# EAGLE library part PH_2X12 (library PP_Connectors)
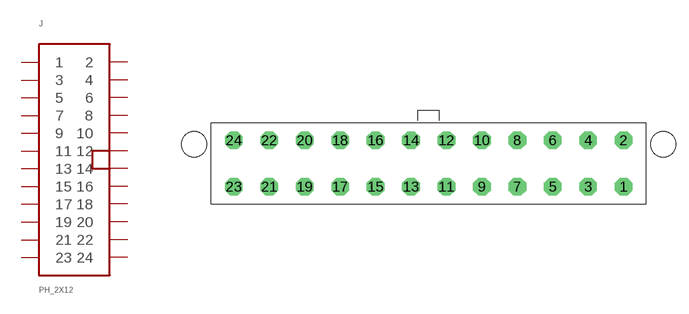
[diagram p15: symbol with the pads of MOLEX_39-28-8240; footprint MOLEX_39-28-8240]

Designator prefix J

## PH_2X12MOLEX_39-28-8240  [MOLEX_39-28-8240]
1  1
2  2
3  3
4  4
5  5
6  6
7  7
8  8
9  9
10  10
11  11
12  12
13  13
14  14
15  15
16  16
17  17
18  18
19  19
20  20
21  21
22  22
23  23
24  24

## Footprint MOLEX_39-28-8240 (pad centres in mm)
drill 1.4 octagon: 1 24.4,-2.75; 2 24.4,2.75; 3 20.2,-2.75; 4 20.2,2.75; 5 16,-2.75; 6 16,2.75; 7 11.8,-2.75; 8 11.8,2.75; 9 7.6,-2.75; 10 7.6,2.75; 11 3.4,-2.75; 12 3.4,2.75; 13 -0.8,-2.75; 14 -0.8,2.75; 15 -5,-2.75; 16 -5,2.75; 17 -9.2,-2.75; 18 -9.2,2.75; 19 -13.4,-2.75; 20 -13.4,2.75; 21 -17.6,-2.75; 22 -17.6,2.75; 23 -21.8,-2.75; 24 -21.8,2.75
hole 3 at -26.5,2.29
hole 3 at 29.1,2.29